# Altium footprint library Soporte pilas boton.PcbLib: 2 footprints
Each footprint in its own frame and in the unit in brackets; x right, y up, seen from the top. Pads: shape width x height; smd on the part's side, far side on the other; paste and mask are expansions set on the pad; w line width, h text height; cw(c..) or ccw(c..) is an arc to the next point about the centre after c.
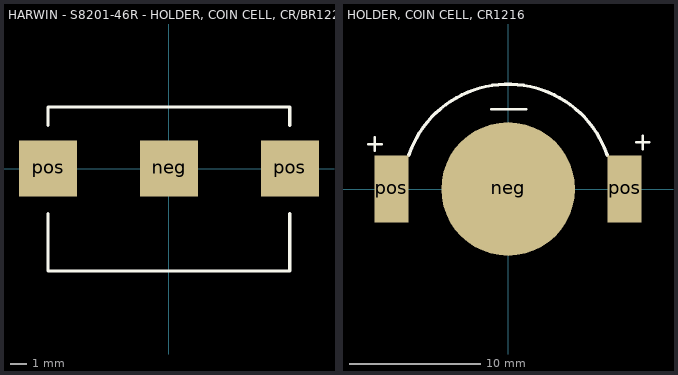
[diagram p0: the footprints below, top view; thin cyan lines are the x and y axes]

## HARWIN - S8201-46R - HOLDER, COIN CELL, CR/BR1225 - duplicate [mm]
pads (3):
  rect 3.6x3.5 smd: neg(0.007,0) pos(-7.493,0) pos(7.507,0)
Top Overlay:
  lines w0.2: -7.493,-2.794 -7.493,-6.35 7.493,-6.35 7.493,-2.794 ; -7.493,2.667 -7.493,3.81 7.493,3.81 7.493,2.667

## HOLDER, COIN CELL, CR1216 [mm] "pilas 1diam: 2.5mm"
pads (3):
  round 10.2 smd: neg(0.007,0)
  rect 2.6x5.1 smd: pos(-8.9,0) pos(8.9,0)
Top Overlay:
  lines w0.2: -10.668,3.429 -9.652,3.429 ; -10.16,2.921 -10.16,3.937 ; -1.27,6.096 1.397,6.096 ; 9.779,3.556 10.795,3.556 ; 10.287,3.048 10.287,4.064
  lines w0.254: -7.579,2.562 cw(c0,0) 7.579,2.562
3D body "soporte pila boton - CR1216 - 12.5diam.STEP": height 3.17, standoff 0, extent -9.78,-6.35 9.78,6.35